# EAGLE library part MAX1811 (library SW_BatteryChargers)
Charger IC Lithium Ion 8-SOIC
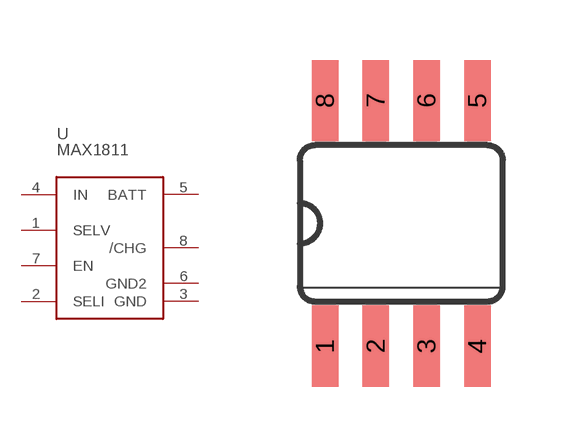
[diagram p1: symbol with the pads of SO08; footprint SO08]

Designator prefix U

## MAX1811SO8 (CATEGORY: Power; DESCRIPTION: USB li-ion battery charger/Single cell; MFGS: Analog Devices,Analog Devices; MPNS: MAX1811ESA+,MAX1811ESA+T; PACKAGE: SOIC-8; PART_NUMBER: MAX1811ESA+; SW_PART_NUMBER: SW0000840)  [SO08]
1  SELV
2  SELI
3  GND
4  IN
5  BATT
6  GND2
7  EN
8  /CHG

## Footprint SO08 (pad centres in mm)
smd 0.66 x 2.032: 1 -1.905,-3.073; 2 -0.635,-3.073; 3 0.635,-3.073; 4 1.905,-3.073; 5 1.905,3.073; 6 0.635,3.073; 7 -0.635,3.073; 8 -1.905,3.073